# Altium footprint library DLW5BSM801TQ2L.PcbLib: 1 footprints
Each footprint in its own frame and in the unit in brackets; x right, y up, seen from the top. Pads: shape width x height; smd on the part's side, far side on the other; paste and mask are expansions set on the pad; w line width, h text height; cw(c..) or ccw(c..) is an arc to the next point about the centre after c.
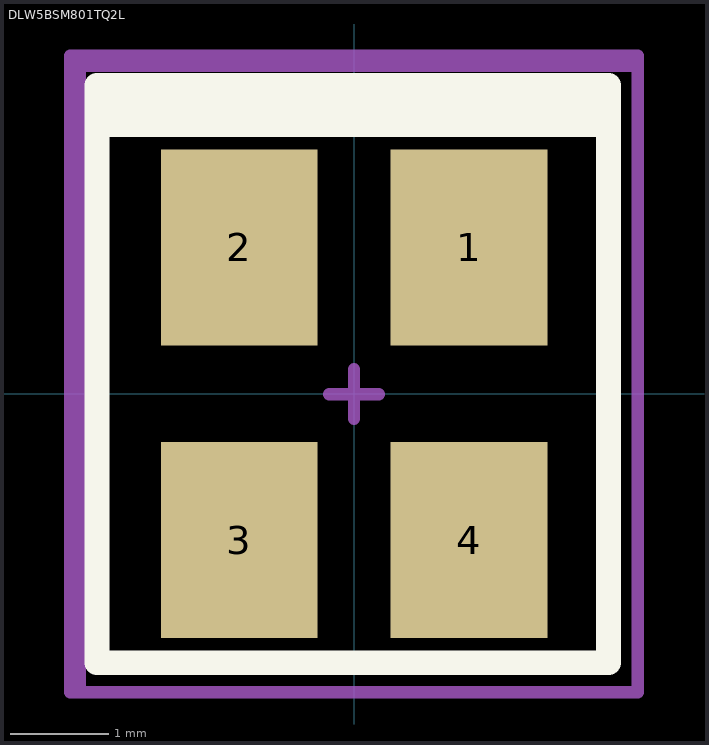
[diagram p0: the footprint, top view; thin cyan lines are the x and y axes]

## DLW5BSM801TQ2L [mm]
pads (4):
  rect 1.6x2 smd: 1(1.174,1.495) 2(-1.173,1.495) 3(-1.173,-1.495) 4(1.174,-1.495)
Top Overlay:
  lines w0.254: -2.627,2.752 2.598,2.752 ; -2.627,2.952 2.598,2.952 ; -2.627,-2.748 -2.627,3.152 2.598,3.152 2.598,-2.748 -2.627,-2.748
Mechanical 13:
  lines w0.127: -2.802,-3.048 2.898,-3.048 2.898,3.352 -2.802,3.352 -2.802,-3.048
Mechanical 15:
  lines w0.127: -0.256,-0.003 0.252,-0.003 ; -0.002,-0.257 -0.002,0.251 ; -2.902,-3.048 -2.902,3.452 2.898,3.452 2.898,-3.048 -2.902,-3.048
Mechanical 17:
  text "'.Designator'" at -2.9,-0.2 h0.51
Mechanical 19:
  text "'.Comment'" at -2.3,-0.3 h0.51
3D body "User Library-DLW5BT.STEP": height 2.45, standoff 0, extent -2.501,-2.498 2.499,2.502